# EAGLE library part 6DOF_IMU (library aq_pcb_v2)
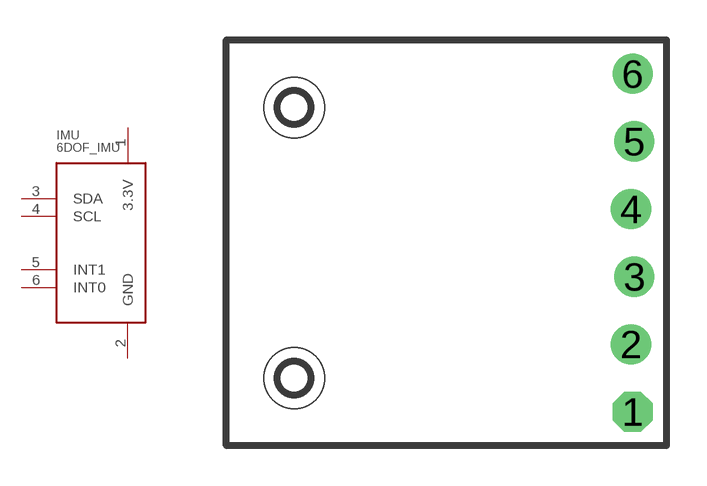
[diagram p2: symbol with the pads of 6DOF_IMU; footprint 6DOF_IMU]

Designator prefix IMU

## 6DOF_IMU  [6DOF_IMU]
1  3.3V  pwr
2  GND  pwr
3  SDA
4  SCL
5  INT1  out
6  INT0  out

## Footprint 6DOF_IMU (pad centres in mm)
drill 1 octagon: 1 0,-6.35
drill 1 round: 2 -0.064,-3.81; 3 0.064,-1.27; 4 -0.064,1.27; 5 0.064,3.81; 6 0,6.35
hole 2.286 at -12.7,5.08
hole 2.286 at -12.7,-5.08